# Altium footprint library 691325310004.PcbLib: 1 footprints
Each footprint in its own frame and in the unit in brackets; x right, y up, seen from the top. Pads: shape width x height; smd on the part's side, far side on the other; paste and mask are expansions set on the pad; w line width, h text height; cw(c..) or ccw(c..) is an arc to the next point about the centre after c.
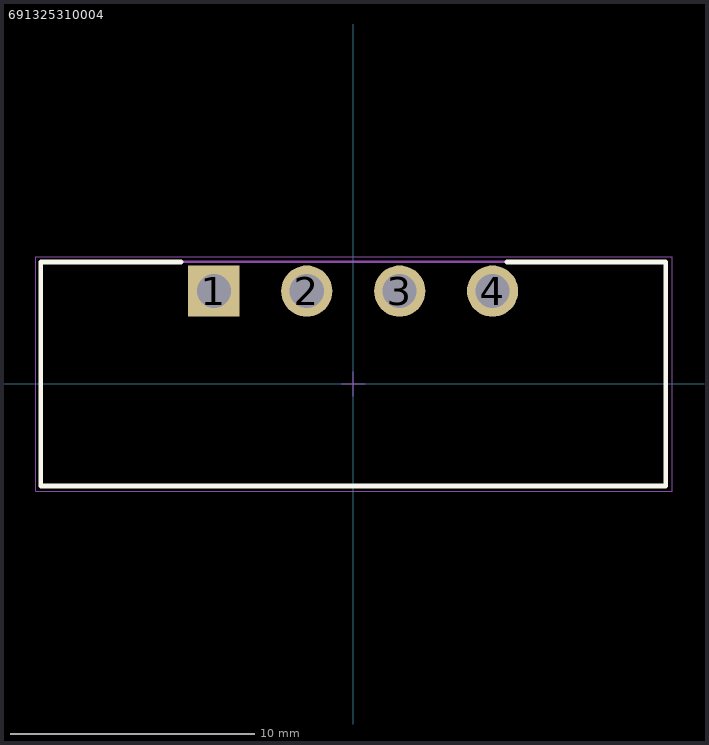
[diagram p0: the footprint, top view; thin cyan lines are the x and y axes]

## 691325310004 [mm] "Horizontal PCB Header with Flanges, pitch 3.81mm, 08p"
height 7
pads (4):
  rect 2.1x2.1 hole 1.4: 1(-5.715,3.81)
  round 2.1 hole 1.4: 2(-1.905,3.81) 3(1.905,3.81) 4(5.715,3.81)
Top Overlay:
  lines w0.2: -7.065,5.01 -12.815,5.01 -12.815,-4.19 12.815,-4.19 12.815,5.01 6.305,5.01
Top Assembly:
  lines w0.05: -0.5,0 0.5,0 ; 0,-0.5 0,0.5
  lines w0.1: -12.815,-4.19 -12.815,5.01 12.827,5.01 12.827,-4.19 -12.815,-4.19
Top Courtyard:
  lines w0.05: -13.015,-4.39 -13.015,5.21 13.081,5.21 13.081,-4.39 -13.015,-4.39
3D body "691325310004 (rev1).stp": height 7.3, standoff -3.4, extent -12.815,-4.19 12.815,5.01